# Altium schematic symbol library HOLE_2mm.SchLib: 1 symbol
Pins are listed as number, name and electrical type; pins without a type are passive.

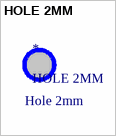
[diagram p0: symbol HOLE 2MM]

## HOLE 2MM
designator *
footprint PCBComponent_1
text: Hole 2mm